# EAGLE library part S8B-PH (library con-JST PH)
JST PH series header 2.00mm pitch disconnectable crimp style connectors, horizontal (side entry type), 8 pins
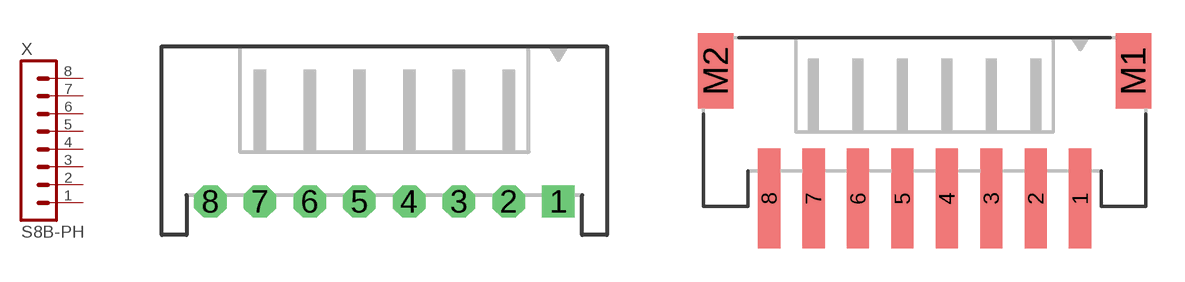
[diagram p13: symbol with the pads of S8B-PH-K-S; footprints S8B-PH-K-S, S8B-PH-SM4-TB]

Designator prefix X

## S8B-PH-K-S  [S8B-PH-K-S]
1  1  pas
2  2  pas
3  3  pas
4  4  pas
5  5  pas
6  6  pas
7  7  pas
8  8  pas

## S8B-PH-KL  [S8B-PH-K-S]
Pads as for S8B-PH-K-S

## S8B-PH-SM4-TB  [S8B-PH-SM4-TB]
Pads as for S8B-PH-K-S

## Footprint S8B-PH-K-S (pad centres in mm)
JST PH series header 2.00mm pitch disconnectable crimp style connectors, through-hole horizontal (side entry type), 8 pins
drill 0.7 pad 1.3 square: 1 7,0
drill 0.7 pad 1.3 octagon: 2 5,0; 3 3,0; 4 1,0; 5 -1,0; 6 -3,0; 7 -5,0; 8 -7,0

## Footprint S8B-PH-SM4-TB (pad centres in mm)
JST PH series header 2.00mm pitch disconnectable crimp style connectors, SMT horizontal (side entry type), 8 pins
smd 1 x 4.5: 1 7,0; 2 5,0; 3 3,0; 4 1,0; 5 -1,0; 6 -3,0; 7 -5,0; 8 -7,0
smd 1.6 x 3.4: M1 9.4,5.75; M2 -9.4,5.75